# Altium footprint library New_Parts.PcbLib: 16 footprints
Each footprint in its own frame and in the unit in brackets; x right, y up, seen from the top. Pads: shape width x height; smd on the part's side, far side on the other; paste and mask are expansions set on the pad; w line width, h text height; cw(c..) or ccw(c..) is an arc to the next point about the centre after c.
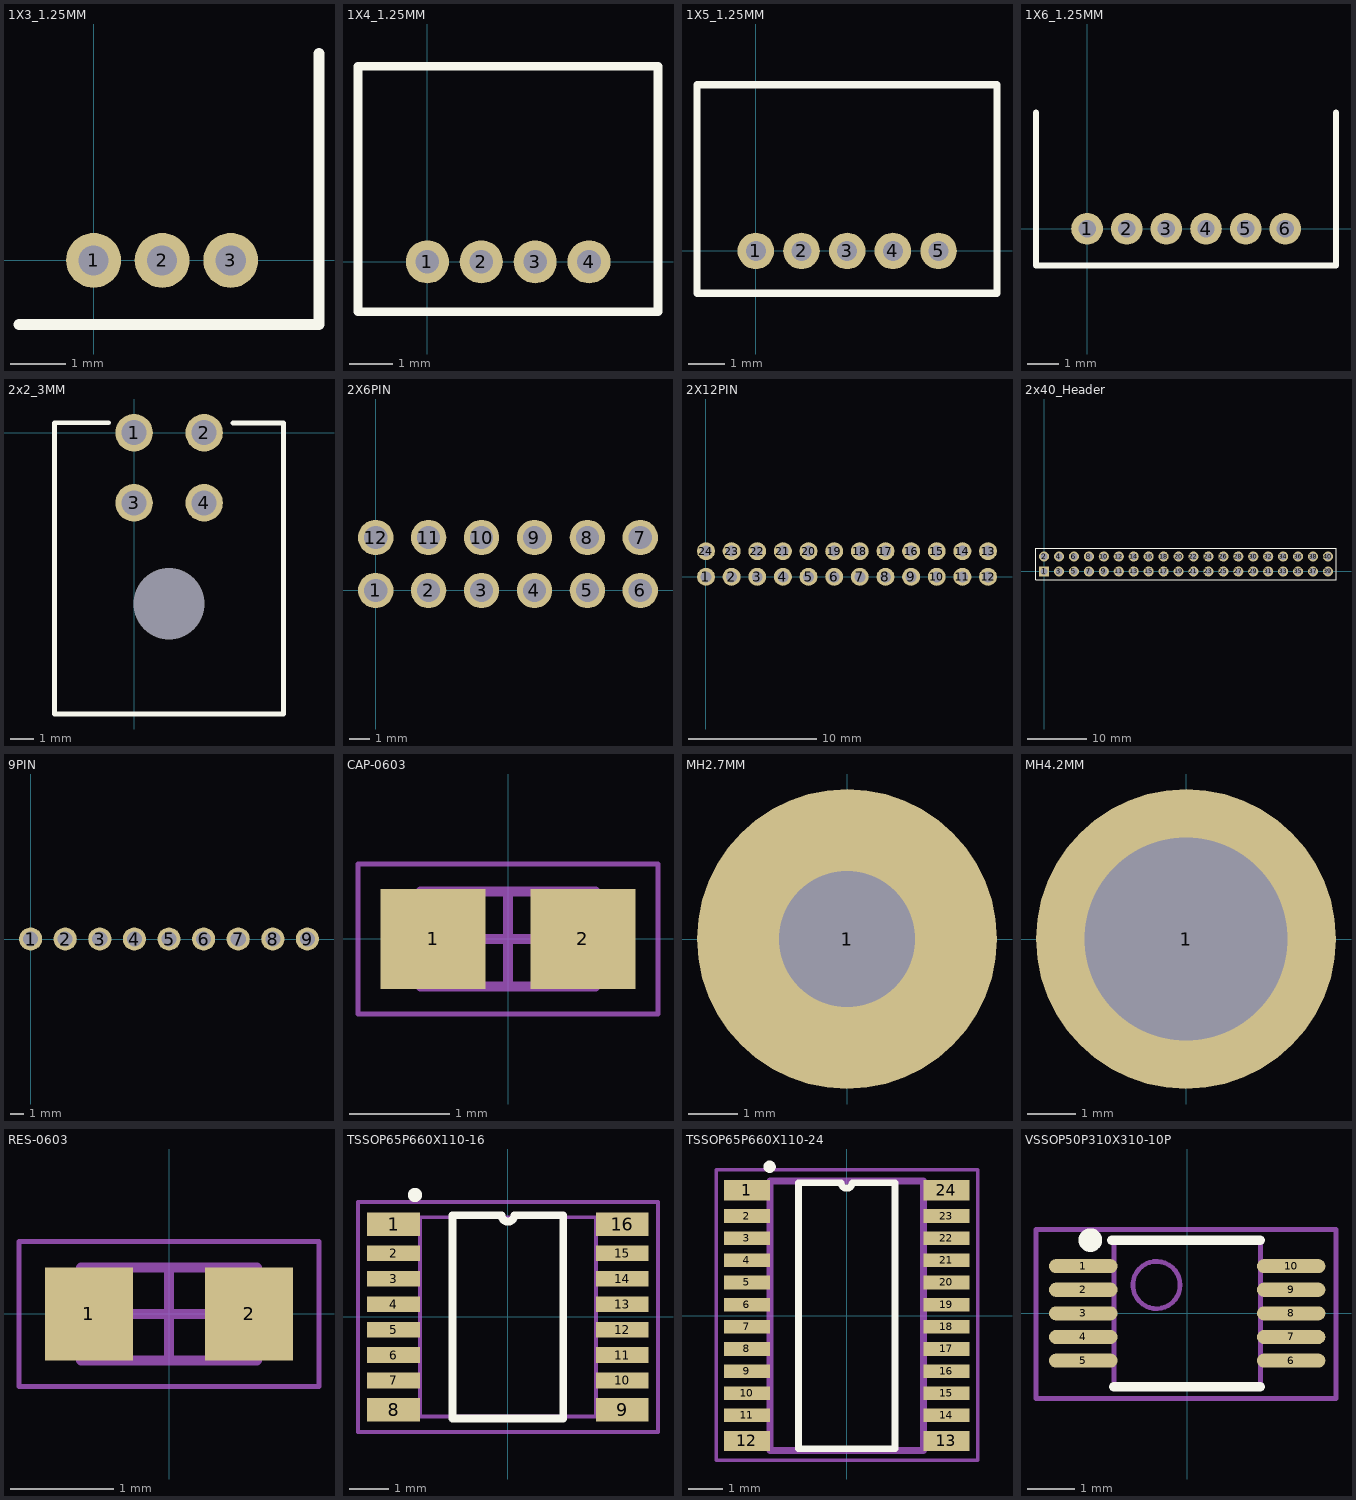
[diagram p0: the footprints below, top view; thin cyan lines are the x and y axes]

## 1X3_1.25MM [mm]
pads (3):
  round 1 hole 0.55: 1(0,0) 2(1.25,0) 3(2.5,0)
Top Overlay:
  lines w0.2: -1.36,-1.17 4.11,-1.17 4.11,3.775
3D body "530480310.stp": height 3.55, standoff -2.25, extent -1.49,-1.07 4.01,4.43

## 1X4_1.25MM [mm]
pads (4):
  round 1 hole 0.55: 1(0,0) 2(1.25,0) 3(2.5,0) 4(3.75,0)
Top Overlay:
  lines w0.2: -1.61,-1.16 -1.61,4.54 5.35,4.54 5.35,-1.16 -1.61,-1.16
3D body "530480410.stp": height 3.55, standoff -2.25, extent -1.505,-1.06 5.245,4.44

## 1X5_1.25MM [mm]
pads (5):
  round 1 hole 0.55: 1(0,0) 2(1.25,0) 3(2.5,0) 4(3.75,0) 5(5,0)
Top Overlay:
  lines w0.2: -1.61,-1.16 -1.61,4.55 6.6,4.55 6.6,-1.16 -1.61,-1.16
3D body "530480510.stp": height 3.5, standoff -2.3, extent -1.5,-1.055 6.5,4.445

## 1X6_1.25MM [mm]
pads (6):
  round 1 hole 0.55: 1(0,0) 2(1.25,0) 3(2.5,0) 4(3.75,0) 5(5,0) 6(6.25,0)
Top Overlay:
  lines w0.2: -1.61,3.662 -1.61,-1.16 7.848,-1.16 7.848,3.653
3D body "530480610.stp": height 3.55, standoff -2.25, extent -1.503,-1.075 7.747,4.425

## 2x2_3MM [mm] "Connector Header Through Hole, Right Angle 4 position 0.118\" (3.00mm)"
pads (5):
  round 1.605 hole 1.07: 1(0,0) 2(3,0) 3(0,-3) 4(3,-3)
  round 0 hole 3.05 unplated: 23(1.5,-7.32)
Top Overlay:
  lines w0.2: -1.08,0.43 -3.41,0.43 -3.41,-12.04 6.4,-12.04 6.4,0.42 4.23,0.42
3D body "10127720-04xlfc.stp": height 8.75, standoff -3.1, extent -3.3,-11.93 6.3,0.32

## 2X6PIN [mm]
pads (12):
  round 1.7 hole 1.11: 1(0,0) 2(2.54,0) 3(5.08,0) 4(7.62,0) 5(10.16,0) 6(12.7,0) 7(12.7,2.54) 8(10.16,2.54) 9(7.62,2.54) 10(5.08,2.54) 11(2.54,2.54) 12(0,2.54)
3D body "901303112.stp": height 9.87, standoff -2.78, extent -2.42,-10.55 15.16,2.853

## 2X12PIN [mm]
pads (24):
  round 1.4 hole 0.85: 1(0,0) 2(2,0) 3(4,0) 4(6,0) 5(8,0) 6(10,0) 7(12,0) 8(14,0) 9(16,0) 10(18,0) 11(20,0) 12(22,0) 13(22,2) 14(20,2) 15(18,2) 16(16,2) 17(14,2) 18(12,2) 19(10,2) 20(8,2) 21(6,2) 22(4,2) 23(2,2) 24(0,2)
3D body "DF11-24DP-2DS.stp": height 5.66, standoff -2.34, extent -2,-0.275 24,9.725

## 2x40_Header [mm]
pads (40):
  rect 1.725x1.725 hole 1.15: 1(0,0)
  round 1.725 hole 1.15: 2(0,2.54) 3(2.54,0) 4(2.54,2.54) 5(5.08,0) 6(5.08,2.54) 7(7.62,0) 8(7.62,2.54) 9(10.16,0) 10(10.16,2.54) 11(12.7,0) 12(12.7,2.54) 13(15.24,0) 14(15.24,2.54) 15(17.78,0) 16(17.78,2.54) 17(20.32,0) 18(20.32,2.54) 19(22.86,0) 20(22.86,2.54) 21(25.4,0) 22(25.4,2.54) 23(27.94,0) 24(27.94,2.54) 25(30.48,0) 26(30.48,2.54) 27(33.02,0) 28(33.02,2.54) 29(35.56,0) 30(35.56,2.54) 31(38.1,0) 32(38.1,2.54) 33(40.64,0) 34(40.64,2.54) 35(43.18,0) 36(43.18,2.54) 37(45.72,0) 38(45.72,2.54) 39(48.26,0) 40(48.26,2.54)
Top Overlay:
  lines w0.2: -1.37,-1.37 49.63,-1.37 49.63,3.91 -1.37,3.91 -1.37,-1.37
3D body "61304021121_Download_STP_61304021121_rev1.stp": height 8.57, standoff -2.97, extent -1.27,-1.27 49.53,3.81

## 9PIN [mm]
pads (9):
  round 1.7 hole 1.11: 1(0,0) 2(2.54,0) 3(5.08,0) 4(7.62,0) 5(10.16,0) 6(12.7,0) 7(15.24,0) 8(17.78,0) 9(20.32,0)
3D body "705530008.stp": height 7.06, standoff -3.22, extent -2.56,-12.889 22.84,0.7

## CAP-0603 [mm] "Chip Capacitor, 2-Leads, Body 1.60x0.80mm, IPC Medium Density"
height 0.9
pads (2):
  rect 1.05x1 smd: 1(-0.75,0) 2(0.75,0)
Mechanical 13:
  lines w0.1: -0.875,-0.475 -0.875,0.475 0.875,0.475 0.875,-0.475 -0.875,-0.475
Mechanical 15:
  lines w0.05: -1.5,-0.75 -1.5,0.75 1.5,0.75 1.5,-0.75 -1.5,-0.75
  lines w0.1: -0.475,0 0.475,0 ; 0,-0.475 0,0.475
3D body "CAPC1608X09N.step": height 0.9, standoff 0, extent -0.875,-0.475 0.875,0.475

## MH2.7MM [mm] "Mounting Hole, 2.7mm"
pads (1):
  round 6.05 hole 2.75: 1(0,0)
3D body: height 20, standoff 0, extent -0.249,-0.25 0.249,0.25

## MH4.2MM [mm] "Mounting Hole, 4.2mm"
pads (1):
  round 6.2 hole 4.2: 1(0,0)
3D body: height 20, standoff 0, extent -0.249,-0.25 0.249,0.25

## RES-0603 [mm] "Chip Resistor, 2-Leads, Body 1.60x0.80mm, IPC Medium Density"
height 0.55
pads (2):
  rect 0.85x0.9 smd: 1(-0.775,0) 2(0.775,0)
Mechanical 13:
  lines w0.1: -0.85,-0.45 0.85,-0.45 0.85,0.45 -0.85,0.45 -0.85,-0.45
Mechanical 15:
  lines w0.05: -1.45,-0.7 1.45,-0.7 1.45,0.7 -1.45,0.7 -1.45,-0.7
  lines w0.1: -0.45,0 0.45,0 ; 0,-0.45 0,0.45
3D body "RESC1608X06N.step": height 0.55, standoff 0, extent -0.85,-0.45 0.85,0.45

## TSSOP65P660X110-16 [mm] "TSSOP, 16-Leads, Body 5.1x4.50mm, Pitch 0.65mm, IPC Medium Density"
height 1.1
pads (16):
  rect 1.35x0.6 smd: 1(-2.925,2.375) 8(-2.925,-2.375) 9(2.925,-2.375) 16(2.925,2.375)
  rect 1.35x0.4 smd: 2(-2.925,1.625) 3(-2.925,0.975) 4(-2.925,0.325) 5(-2.925,-0.325) 6(-2.925,-0.975) 7(-2.925,-1.625) 10(2.925,-1.625) 11(2.925,-0.975) 12(2.925,-0.325) 13(2.925,0.325) 14(2.925,0.975) 15(2.925,1.625)
Top Overlay:
  circle w0.2: c-2.379,3.12 r0.08
  lines w0.2: -1.415,-2.6 1.415,-2.6 1.415,2.6 0.162,2.6 cw(c0,2.6) -0.162,2.6 -1.415,2.6 -1.415,-2.6
Mechanical 13:
  lines w0.1: -2.25,-2.55 2.25,-2.55 2.25,2.55 -2.25,2.55 -2.25,-2.55
Mechanical 15:
  lines w0.1: -3.835,-2.939 3.839,-2.939 3.839,2.94 -3.835,2.94 -3.835,-2.939
3D body: height 0.95, standoff 0.05, extent -2.25,-2.55 2.25,2.55

## TSSOP65P660X110-24 [mm] "TSSOP, 24-Leads, Body 7.9x4.50mm, Pitch 0.65mm, IPC Medium Density"
height 1.1
pads (24):
  rect 1.35x0.6 smd: 1(-2.925,3.675) 12(-2.925,-3.675) 13(2.925,-3.675) 24(2.925,3.675)
  rect 1.35x0.4 smd: 2(-2.925,2.925) 3(-2.925,2.275) 4(-2.925,1.625) 5(-2.925,0.975) 6(-2.925,0.325) 7(-2.925,-0.325) 8(-2.925,-0.975) 9(-2.925,-1.625) 10(-2.925,-2.275) 11(-2.925,-2.925) 14(2.925,-2.925) 15(2.925,-2.275) 16(2.925,-1.625) 17(2.925,-0.975) 18(2.925,-0.325) 19(2.925,0.325) 20(2.925,0.975) 21(2.925,1.625) 22(2.925,2.275) 23(2.925,2.925)
Top Overlay:
  circle w0.2: c-2.261,4.371 r0.08
  lines w0.2: -1.415,-3.9 1.415,-3.9 1.415,3.9 0.162,3.9 cw(c0,3.9) -0.162,3.9 -1.415,3.9 -1.415,-3.9
Mechanical 13:
  lines w0.2: -2.25,-3.95 2.25,-3.95 2.25,3.95 -2.25,3.95 -2.25,-3.95
Mechanical 15:
  lines w0.1: -3.828,-4.239 3.846,-4.239 3.846,4.281 -3.828,4.281 -3.828,-4.239
3D body: height 1.1, standoff 0.1, extent -2.25,-3.95 2.25,3.95

## VSSOP50P310X310-10P [mm] "VSSOP, 10-Leads, Body 3.1x3.1mm (max), Pitch 0.50mm, IPC Low Density"
height 1.1
pads (10):
  oval 1.45x0.3 smd: 1(-2.2,1) 2(-2.2,0.5) 3(-2.2,0) 4(-2.2,-0.5) 5(-2.2,-1) 6(2.2,-1) 7(2.2,-0.5) 8(2.2,0) 9(2.2,0.5) 10(2.2,1)
Top Overlay:
  circle w0.25: c-2.05,1.55 r0.125
  lines w0.2: -1.6,1.55 1.55,1.55 ; -1.55,-1.55 1.55,-1.55
Mechanical 13:
  circle w0.1: c-0.65,0.6 r0.5
  lines w0.1: -1.55,-1.55 -1.55,1.55 1.55,1.55 1.55,-1.55 -1.55,-1.55
Mechanical 15:
  lines w0.1: -3.2,-1.8 -3.2,1.773 3.15,1.773 3.15,-1.8 -3.2,-1.8
3D body: height 1.1, standoff 0.1, extent -1.55,-1.55 1.55,1.55